# EAGLE library part BDXXIC0WEFJ (library Fugu_LSI)
Fixed Output LDO Regulators
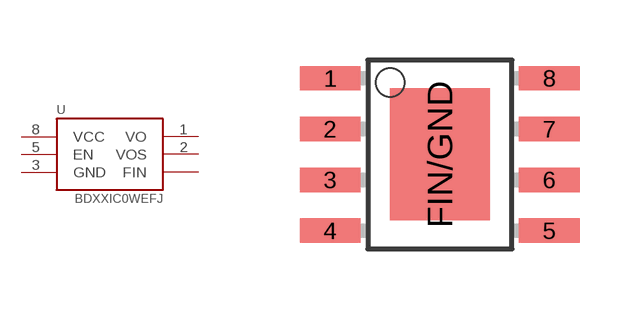
[diagram p8: symbol with the pads of SO-8-FIN; footprint SO-8-FIN]

Designator prefix -

## BDXXIC0WEFJ  [SO-8-FIN]
1  VO
2  VOS
3  GND
5  EN
8  VCC
FIN/GND  FIN

## Footprint SO-8-FIN (pad centres in mm)
smd 1.524 x 0.61: 1 -2.743,1.905; 2 -2.743,0.635; 3 -2.743,-0.635; 4 -2.743,-1.905; 5 2.743,-1.905; 6 2.743,-0.635; 7 2.743,0.635; 8 2.743,1.905
smd 2.5 x 3.3: FIN/GND 0,0